# Altium footprint library 飞控主板.PcbLib: 5 footprints
Each footprint in its own frame and in the unit in brackets; x right, y up, seen from the top. Pads: shape width x height; smd on the part's side, far side on the other; paste and mask are expansions set on the pad; w line width, h text height; cw(c..) or ccw(c..) is an arc to the next point about the centre after c.
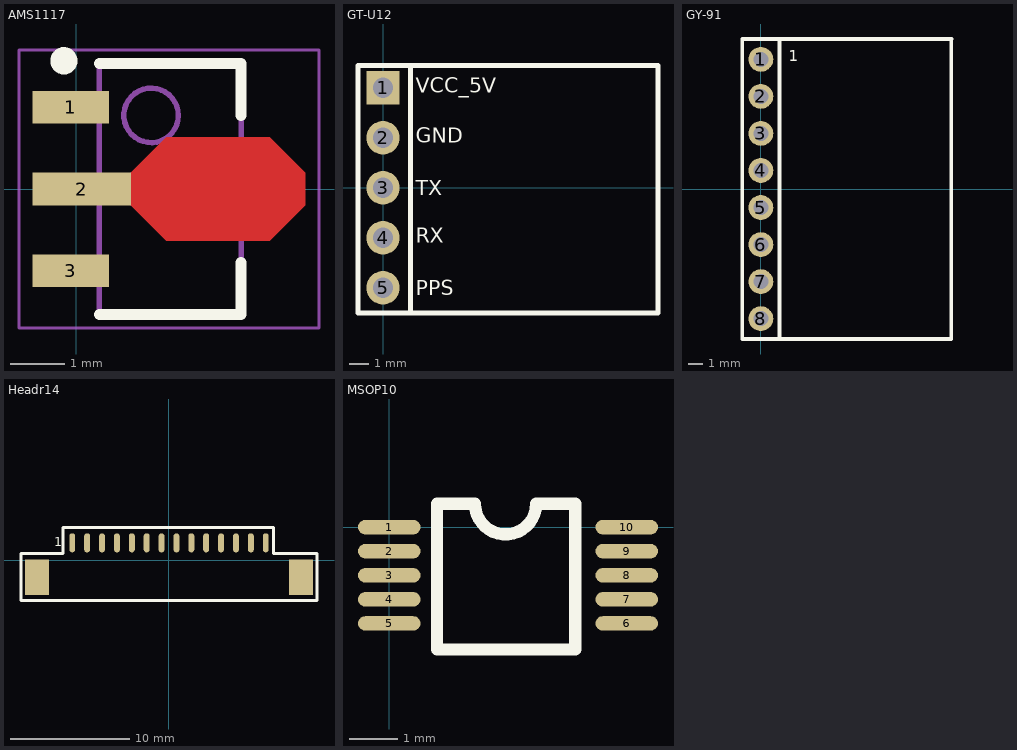
[diagram p0: the footprints below, top view; thin cyan lines are the x and y axes]

## AMS1117 [mm] "3V3降压芯片"
pads (3):
  rect 1.4x0.6 smd: 1(-0.1,1.5) 3(-0.1,-1.5)
  rect 1.8x0.6 smd: 2(0.1,0)
Top Layer:
  region: 0.889,0.189 1.65,0.95 3.55,0.95 4.2,0.3 4.2,-0.3 3.55,-0.95 1.65,-0.95 0.889,-0.189
Top Overlay:
  circle w0.25: c-0.227,2.35 r0.125
  lines w0.2: 0.423,-2.3 3.023,-2.3 3.023,-1.35 ; 0.423,2.3 3.023,2.3 3.023,1.35
Mechanical 13:
  circle w0.1: c1.373,1.35 r0.5
  lines w0.1: 0.423,-2.3 3.023,-2.3 3.023,2.3 0.423,2.3 0.423,-2.3
Mechanical 15:
  lines w0.05: -1.05,-2.55 4.45,-2.55 4.45,2.55 -1.05,2.55 -1.05,-2.55
  lines w0.1: 0.842,0 1.842,0 ; 1.723,-0.5 1.723,0.5
3D body "AMS1117.step": height 1.6, standoff 0, extent -0.5,-2.3 3.55,2.3

## GT-U12 [mm] "GT-U12 GPS模块"
pads (5):
  rect 1.7x1.7 hole 1.02: 1(0,5.08)
  round 1.7 hole 1.02: 2(0,2.54) 3(0,0) 4(0,-2.54) 5(0,-5.08)
Top Overlay:
  lines w0.254: 1.397,-6.35 1.397,6.223 ; 13.922,6.223 -1.27,6.223 -1.27,-6.35 13.97,-6.35 13.97,6.223
  text "PPS" at 1.651,-5.461 h0.76
  text "RX" at 1.651,-2.794 h0.76
  text "TX" at 1.651,-0.381 h0.76
  text "GND" at 1.651,2.286 h0.76
  text "VCC_5V" at 1.651,4.826 h0.76

## GY-91 [mm] "优信电子GY-91,MPU9250+BMP280"
pads (8):
  round 1.7 hole 1.02: 1(0,8.89) 2(0,6.35) 3(0,3.81) 4(0,1.27) 5(0,-1.27) 6(0,-3.81) 7(0,-6.35) 8(0,-8.89)
Top Overlay:
  lines w0.254: 13.056,10.287 13.056,-10.287 -1.27,-10.287 ; 13.081,10.287 13.03,10.287 -1.27,10.287 ; -1.27,-10.287 -1.27,10.287 ; -1.27,-10.287 1.27,-10.287 1.27,10.287 -1.27,10.287
  text "1" at 1.905,8.763 h0.76

## Headr14 [mm] "14pin卧贴接插件"
pads (16):
  oval 0.5x1.6 smd: 1(-8.125,1.45) 2(-6.875,1.45) 3(-5.625,1.45) 4(-4.375,1.45) 5(-3.125,1.45) 6(-1.875,1.45) 7(-0.625,1.45) 8(0.625,1.45) 9(1.875,1.45) 10(3.125,1.45) 11(4.375,1.45) 12(5.625,1.45) ""(6.875,1.45) ""(8.125,1.45)
  rect 2x3 smd: ""(-11.1,-1.45) ""(11.1,-1.45)
Top Overlay:
  lines w0.254: -12.446,-3.376 12.446,-3.376 12.446,0.561 8.763,0.561 8.763,2.72 -8.89,2.72 -8.89,0.561 -12.446,0.561 -12.446,-3.376
  text "1" at -9.652,1.143 h0.76

## MSOP10 [mm] "VSOP8"
height 5
pads (10):
  oval 1.3x0.3 smd: 1(0,0) 2(0,-0.5) 3(0,-1) 4(0,-1.5) 5(0,-2) 6(4.928,-2) 7(4.928,-1.5) 8(4.928,-1) 9(4.928,-0.5) 10(4.928,0)
Top Overlay:
  lines w0.254: 0.991,-2.54 0.991,0.483 1.778,0.483 ccw(c2.413,0.483) 3.048,0.483 3.861,0.483 3.861,-2.54 0.991,-2.54
3D body "MSOP10-1.step": height 1.09, standoff 0, extent -0.111,-2.616 5.039,0.584